# EAGLE library part 10M02SC (library ICs)
Intel® MAX® 10 devices are single-chip, non-volatile low-cost programmable logic devices (PLDs) to integrate the optimal set of system components.
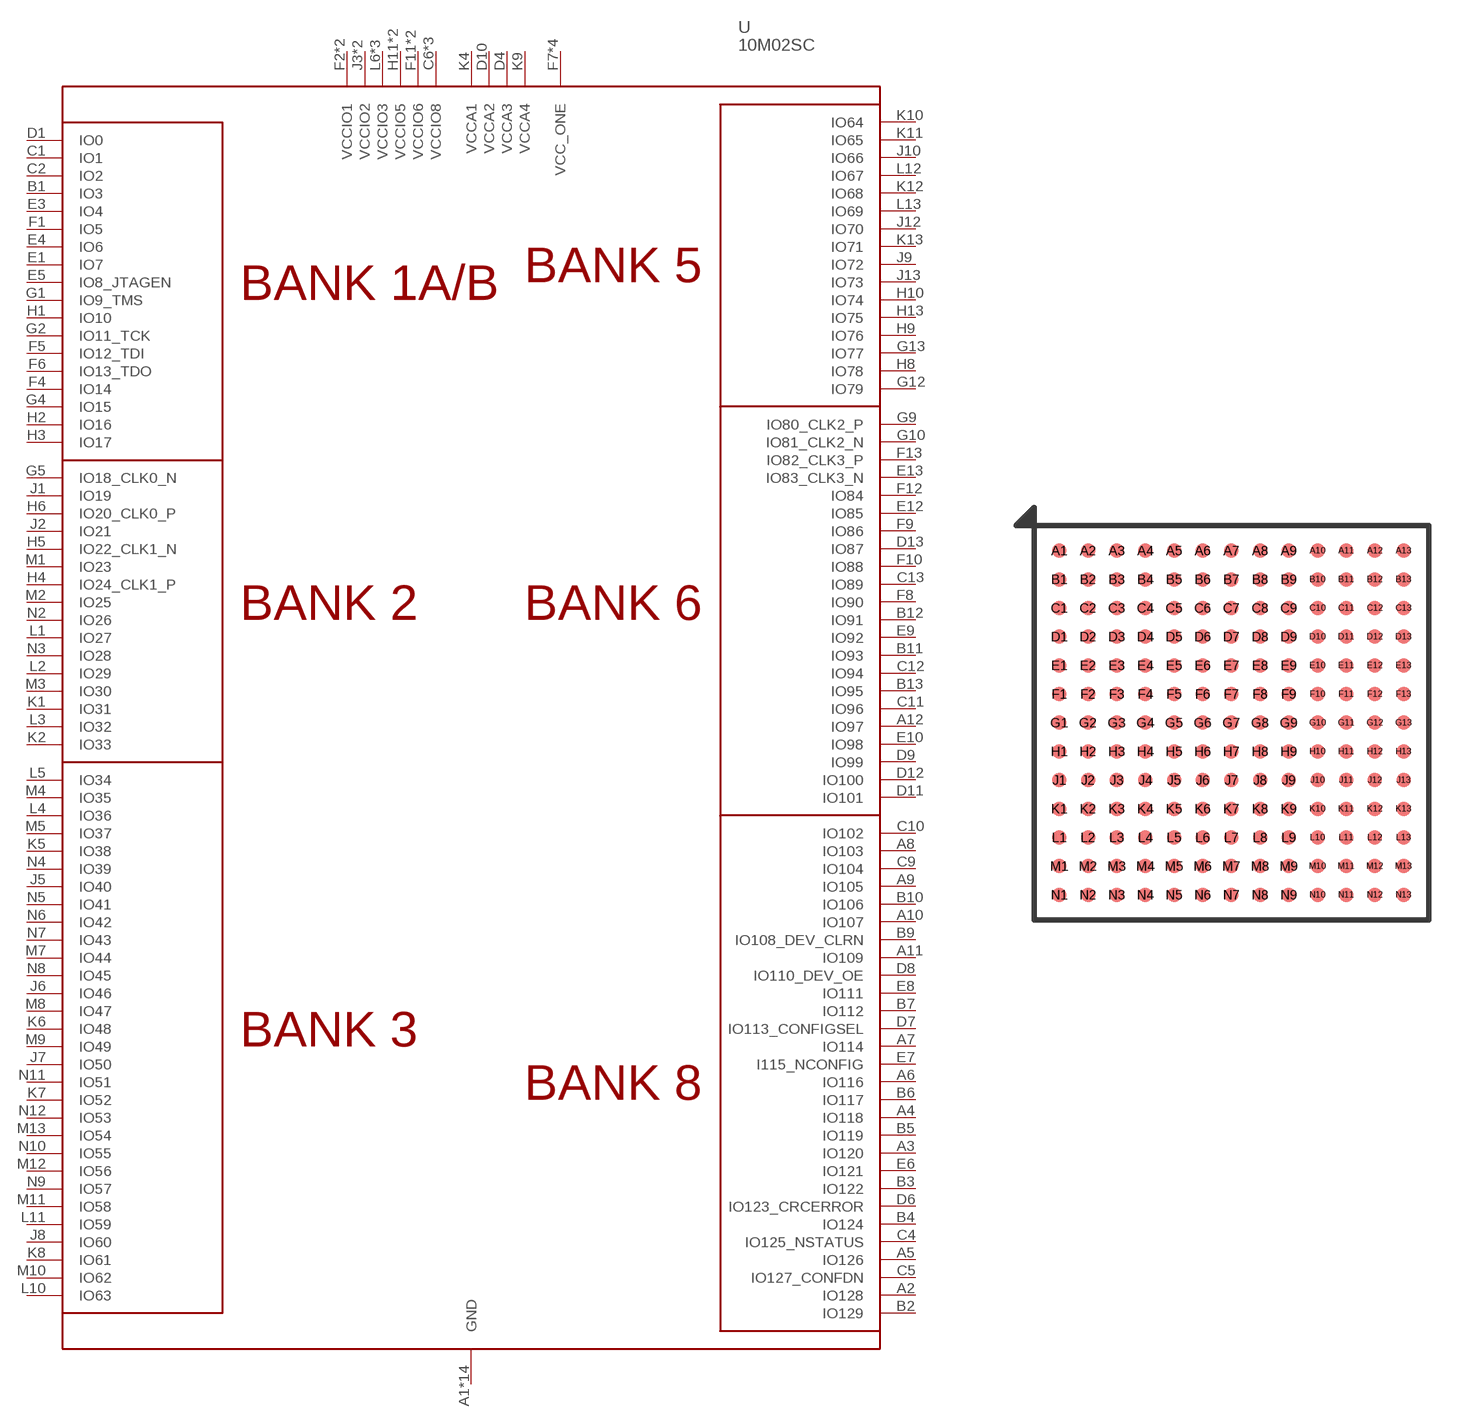
[diagram p178: symbol with the pads of UBGA169; footprint UBGA169]

Designator prefix U

## 10M02SCU169C8G (DIGIKEY: 544-3137-ND; PRICE_PER: 5.10; VALUE: 10M02SC)  [UBGA169]
A1  GND
A2  IO128
A3  IO120
A4  IO118
A5  IO126
A6  IO116
A7  IO114
A8  IO103
A9  IO105
A10  IO107
A11  IO109
A12  IO97
A13  GND
B1  IO3
B2  IO129
B3  IO122
B4  IO124
B5  IO119
B6  IO117
B7  IO112
B8  GND
B9  IO108_DEV_CLRN
B10  IO106
B11  IO93
B12  IO91
B13  IO95
C1  IO1
C2  IO2
C3  GND
C4  IO125_NSTATUS
C5  IO127_CONFDN
C6  VCCIO8
C7  VCCIO8
C8  VCCIO8
C9  IO104
C10  IO102
C11  IO96
C12  IO94
C13  IO89
D1  IO0
D4  VCCA3
D5  GND
D6  IO123_CRCERROR
D7  IO113_CONFIGSEL
D8  IO110_DEV_OE
D9  IO99
D10  VCCA2
D11  IO101
D12  IO100
D13  IO87
E1  IO7
E3  IO4
E4  IO6
E5  IO8_JTAGEN
E6  IO121
E7  I115_NCONFIG
E8  IO111
E9  IO92
E10  IO98
E11  GND
E12  IO85
E13  IO83_CLK3_N
F1  IO5
F2  VCCIO1
F3  GND
F4  IO14
F5  IO12_TDI
F6  IO13_TDO
F7  VCC_ONE
F8  IO90
F9  IO86
F10  IO88
F11  VCCIO6
F12  IO84
F13  IO82_CLK3_P
G1  IO9_TMS
G2  IO11_TCK
G3  VCCIO1
G4  IO15
G5  IO18_CLK0_N
G6  VCC_ONE
G7  GND
G8  VCC_ONE
G9  IO80_CLK2_P
G10  IO81_CLK2_N
G11  VCCIO6
G12  IO79
G13  IO77
H1  IO10
H2  IO16
H3  IO17
H4  IO24_CLK1_P
H5  IO22_CLK1_N
H6  IO20_CLK0_P
H7  VCC_ONE
H8  IO78
H9  IO76
H10  IO74
H11  VCCIO5
H12  GND
H13  IO75
J1  IO19
J2  IO21
J3  VCCIO2
J4  GND
J5  IO40
J6  IO46
J7  IO50
J8  IO60
J9  IO72
J10  IO66
J11  VCCIO5
J12  IO70
J13  IO73
K1  IO31
K2  IO33
K3  VCCIO2
K4  VCCA1
K5  IO38
K6  IO48
K7  IO52
K8  IO61
K9  VCCA4
K10  IO64
K11  IO65
K12  IO68
K13  IO71
L1  IO27
L2  IO29
L3  IO32
L4  IO36
L5  IO34
L6  VCCIO3
L7  VCCIO3
L8  VCCIO3
L9  GND
L10  IO63
L11  IO59
L12  IO67
L13  IO69
M1  IO23
M2  IO25
M3  IO30
M4  IO35
M5  IO37
M6  GND
M7  IO44
M8  IO47
M9  IO49
M10  IO62
M11  IO58
M12  IO56
M13  IO54
N1  GND
N2  IO26
N3  IO28
N4  IO39
N5  IO41
N6  IO42
N7  IO43
N8  IO45
N9  IO57
N10  IO55
N11  IO51
N12  IO53
N13  GND

## Footprint UBGA169 (pad centres in mm)
smd 0.4 x 0.4: A1 -4.8,4.8; A2 -4,4.8; A3 -3.2,4.8; A4 -2.4,4.8; A5 -1.6,4.8; A6 -0.8,4.8; A7 0,4.8; A8 0.8,4.8; A9 1.6,4.8; A10 2.4,4.8; A11 3.2,4.8; A12 4,4.8; A13 4.8,4.8; B1 -4.8,4; B2 -4,4; B3 -3.2,4; B4 -2.4,4; B5 -1.6,4; B6 -0.8,4; B7 0,4; B8 0.8,4; B9 1.6,4; B10 2.4,4; B11 3.2,4; B12 4,4; B13 4.8,4; C1 -4.8,3.2; C2 -4,3.2; C3 -3.2,3.2; C4 -2.4,3.2; C5 -1.6,3.2; C6 -0.8,3.2; C7 0,3.2; C8 0.8,3.2; C9 1.6,3.2; C10 2.4,3.2; C11 3.2,3.2; C12 4,3.2; C13 4.8,3.2; D1 -4.8,2.4; D2 -4,2.4; D3 -3.2,2.4; D4 -2.4,2.4; D5 -1.6,2.4; D6 -0.8,2.4; D7 0,2.4; D8 0.8,2.4; D9 1.6,2.4; D10 2.4,2.4; D11 3.2,2.4; D12 4,2.4; D13 4.8,2.4; E1 -4.8,1.6; E2 -4,1.6; E3 -3.2,1.6; E4 -2.4,1.6; E5 -1.6,1.6; E6 -0.8,1.6; E7 0,1.6; E8 0.8,1.6; E9 1.6,1.6; E10 2.4,1.6; E11 3.2,1.6; E12 4,1.6; E13 4.8,1.6; F1 -4.8,0.8; F2 -4,0.8; F3 -3.2,0.8; F4 -2.4,0.8; F5 -1.6,0.8; F6 -0.8,0.8; F7 0,0.8; F8 0.8,0.8; F9 1.6,0.8; F10 2.4,0.8; F11 3.2,0.8; F12 4,0.8; F13 4.8,0.8; G1 -4.8,0; G2 -4,0; G3 -3.2,0; G4 -2.4,0; G5 -1.6,0; G6 -0.8,0; G7 0,0; G8 0.8,0; G9 1.6,0; G10 2.4,0; G11 3.2,0; G12 4,0; G13 4.8,0; H1 -4.8,-0.8; H2 -4,-0.8; H3 -3.2,-0.8; H4 -2.4,-0.8; H5 -1.6,-0.8; H6 -0.8,-0.8; H7 0,-0.8; H8 0.8,-0.8; H9 1.6,-0.8; H10 2.4,-0.8; H11 3.2,-0.8; H12 4,-0.8; H13 4.8,-0.8; J1 -4.8,-1.6; J2 -4,-1.6; J3 -3.2,-1.6; J4 -2.4,-1.6; J5 -1.6,-1.6; J6 -0.8,-1.6; J7 0,-1.6; J8 0.8,-1.6; J9 1.6,-1.6; J10 2.4,-1.6; J11 3.2,-1.6; J12 4,-1.6; J13 4.8,-1.6; K1 -4.8,-2.4; K2 -4,-2.4; K3 -3.2,-2.4; K4 -2.4,-2.4; K5 -1.6,-2.4; K6 -0.8,-2.4; K7 0,-2.4; K8 0.8,-2.4; K9 1.6,-2.4; K10 2.4,-2.4; K11 3.2,-2.4; K12 4,-2.4; K13 4.8,-2.4; L1 -4.8,-3.2; L2 -4,-3.2; L3 -3.2,-3.2; L4 -2.4,-3.2; L5 -1.6,-3.2; L6 -0.8,-3.2; L7 0,-3.2; L8 0.8,-3.2; L9 1.6,-3.2; L10 2.4,-3.2; L11 3.2,-3.2; L12 4,-3.2; L13 4.8,-3.2; M1 -4.8,-4; M2 -4,-4; M3 -3.2,-4; M4 -2.4,-4; M5 -1.6,-4; M6 -0.8,-4; M7 0,-4; M8 0.8,-4; M9 1.6,-4; M10 2.4,-4; M11 3.2,-4; M12 4,-4; M13 4.8,-4; N1 -4.8,-4.8; N2 -4,-4.8; N3 -3.2,-4.8; N4 -2.4,-4.8; N5 -1.6,-4.8; N6 -0.8,-4.8; N7 0,-4.8; N8 0.8,-4.8; N9 1.6,-4.8; N10 2.4,-4.8; N11 3.2,-4.8; N12 4,-4.8; N13 4.8,-4.8